# EAGLE library part VCO-V1.0 (library XM8)
Xonik CEM3340 based VCO v1.0
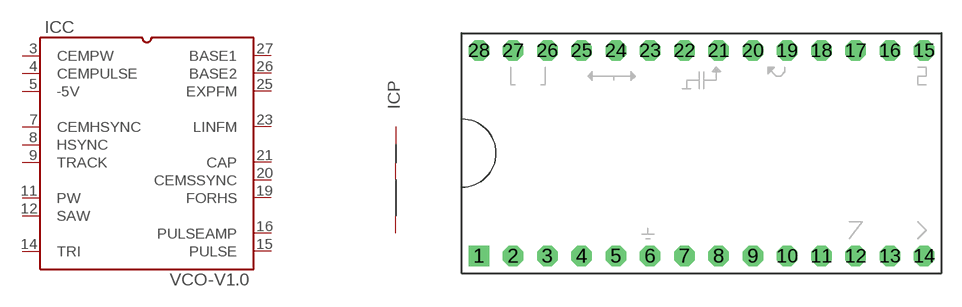
[diagram p1: symbol with the pads of XM8-CEM3340-V1.0; footprint XM8-CEM3340-V1.0]

Designator prefix IC; gates C=XM8-CEM3340-V1.0 P=XM8-PWR

## VCO-V1.0  [XM8-CEM3340-V1.0]
1  P:-V  pwr
3  C:CEMPW
4  C:CEMPULSE
5  C:-5V
6  P:AGND  pwr
7  C:CEMHSYNC
8  C:HSYNC
9  C:TRACK
11  C:PW
12  C:SAW
14  C:TRI
15  C:PULSE
16  C:PULSEAMP
19  C:FORHS
20  C:CEMSSYNC
21  C:CAP
23  C:LINFM
25  C:EXPFM
26  C:BASE2
27  C:BASE1
28  P:+V  pwr

## Footprint XM8-CEM3340-V1.0 (pad centres in mm)
Xonik DCO v1.4, DIL28 wide
drill 1.016 square: 1 -16.51,-7.62
drill 1.016 octagon: 2 -13.97,-7.62; 3 -11.43,-7.62; 4 -8.89,-7.62; 5 -6.35,-7.62; 6 -3.81,-7.62; 7 -1.27,-7.62; 8 1.27,-7.62; 9 3.81,-7.62; 10 6.35,-7.62; 11 8.89,-7.62; 12 11.43,-7.62; 13 13.97,-7.62; 14 16.51,-7.62; 15 16.51,7.62; 16 13.97,7.62; 17 11.43,7.62; 18 8.89,7.62; 19 6.35,7.62; 20 3.81,7.62; 21 1.27,7.62; 22 -1.27,7.62; 23 -3.81,7.62; 24 -6.35,7.62; 25 -8.89,7.62; 26 -11.43,7.62; 27 -13.97,7.62; 28 -16.51,7.62